# EAGLE library part TLE5501-E00001 (library mylib)
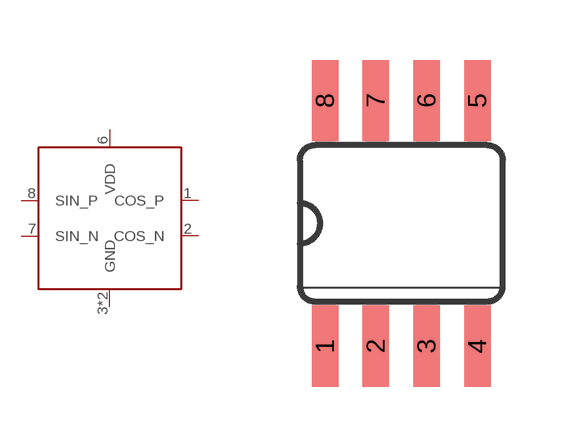
[diagram p3: symbol with the pads of SO08; footprint SO08]

Designator prefix -

## TLE5501-E00001  [SO08]
1  COS_P
2  COS_N
3  GND  pwr
4  GND  pwr
6  VDD
7  SIN_N
8  SIN_P

## Footprint SO08 (pad centres in mm)
Small Outline Package SOIC 150 mil
smd 0.66 x 2.032: 1 -1.905,-3.073; 2 -0.635,-3.073; 3 0.635,-3.073; 4 1.905,-3.073; 5 1.905,3.073; 6 0.635,3.073; 7 -0.635,3.073; 8 -1.905,3.073